# Altium integrated library Microchip Mixed Signal.IntLib: 1399 symbols (part 39 of 39)
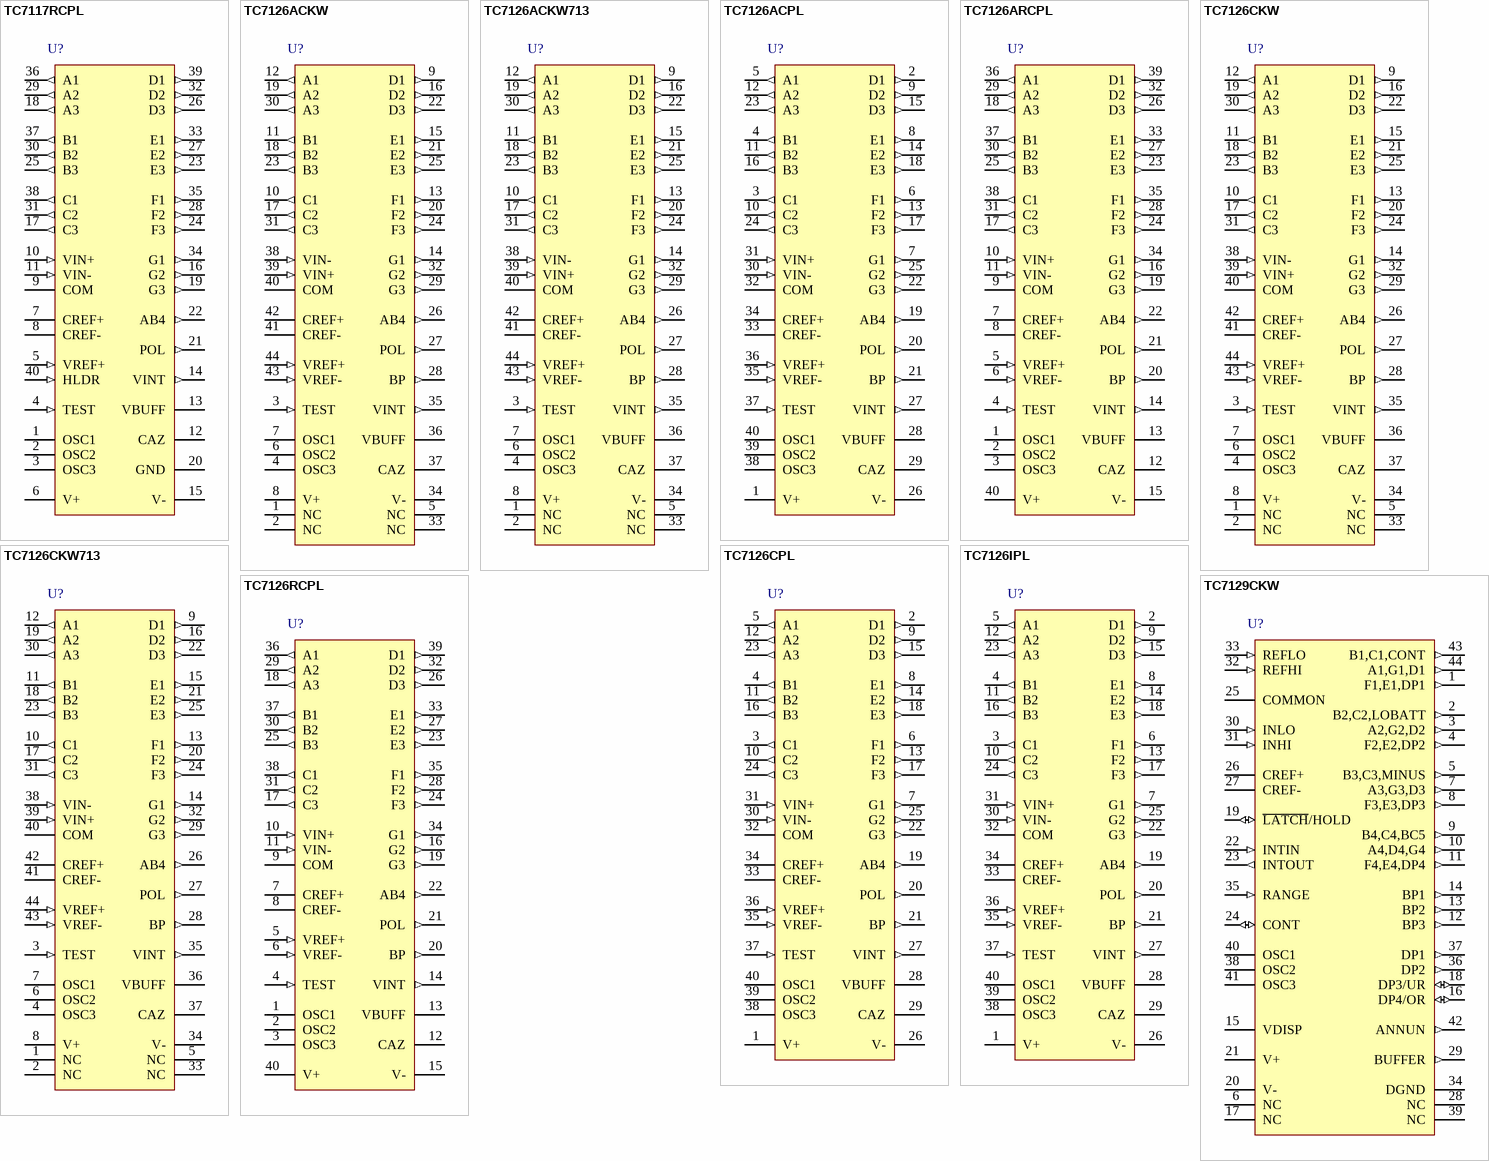
[diagram p82: symbols TC7117RCPL to TC7129CKW]

## TC7126RCPL
designator U?
3-1/2 Digit Analog-to-Digital Converters, 40-Pin PDIP 600mil, Commercial Temperature; Manufacturer: Microchip; PartNumber: TC7126RCPL; DatasheetVersion: Feb-2006; PackageVersion: revBB, Aug-2009; PackageReference: PDIP600-PL40; PackageDescription: 40-Lead Plastic Dual In-Line (PL) - 600mil Body [PDIP]; Supplier 1: Digi-Key; Supplier Part Number 1: TC7126RCPL-ND; Supplier 2: Mouser; Supplier Part Number 2: 579-TC7126RCPL; Mounting Technology: Through Hole; ComponentLink1Description: Manufacturer URL; ComponentLink1URL: http://www.microchip.com/; ComponentLink2Description: Datasheet; ComponentLink2URL: http://ww1.microchip.com/downloads/en/DeviceDoc/21458C.pdf; ComponentLink3Description: Package Specification; ComponentLink3URL: http://www.microchip.com/stellent/groups/techpub_sg/documents/packagingspec/en012702.pdf
footprint PDIP600-PL40 (DIP, 40-Leads, Row Spacing 15.24mm, Pitch 2.54mm, Body 51.8x13.5mm)
pins: 1 OSC1, 2 OSC2, 3 OSC3, 4 TEST (in), 5 VREF+ (in), 6 VREF- (in), 7 CREF+, 8 CREF-, 9 COM (power), 10 VIN+ (in), 11 VIN- (in), 12 CAZ, 13 VBUFF, 14 VINT (out), 15 V- (power), 16 G2 (out), 17 C3 (out), 18 A3 (out), 19 G3 (out), 20 BP (out), 21 POL (out), 22 AB4 (out), 23 E3 (out), 24 F3 (out), 25 B3 (out), 26 D3 (out), 27 E2 (out), 28 F2 (out), 29 A2 (out), 30 B2 (out), 31 C2 (out), 32 D2 (out), 33 E1 (out), 34 G1 (out), 35 F1 (out), 36 A1 (out), 37 B1 (out), 38 C1 (out), 39 D1 (out), 40 V+ (power)

## TC7129CKW
designator U?
4-1/2 Digit Analog-to-Digital Converters with On-Chip LCD Drivers, 44-Pin MQFP, Commercial Temperature; Manufacturer: Microchip; PartNumber: TC7129CKW; DatasheetVersion: Feb-2006; PackageVersion: revBB, Aug-2009; PackageReference: MQFP-KW44; PackageDescription: 44-Lead Plastic Metric Quad Flatpack (KW) - 10x10x2mm Body, 3.20mm [MQFP]; Supplier 1: Digi-Key; Supplier Part Number 1: TC7129CKW-ND; Supplier 2: Mouser; Supplier Part Number 2: 579-TC7129CKW; Mounting Technology: Surface Mount; Code_JEDEC: MS-022-AB; Code_IPC: QFP80P1320X1320-44; ComponentLink1Description: Manufacturer URL; ComponentLink1URL: http://www.microchip.com/; ComponentLink2Description: Datasheet; ComponentLink2URL: http://ww1.microchip.com/downloads/en/DeviceDoc/21459D.pdf; ComponentLink3Description: Package Specification; ComponentLink3URL: http://www.microchip.com/stellent/groups/techpub_sg/documents/packagingspec/en012702.pdf
footprint MQFP-KW44_N (QFP, 44-Leads, Body 10x10mm, Pitch 0.8mm, IPC Medium Density)
footprint MQFP-KW44_L (QFP, 44-Leads, Body 10x10mm, Pitch 0.8mm, IPC High Density)
footprint MQFP-KW44_M (QFP, 44-Leads, Body 10x10mm, Pitch 0.8mm, IPC Low Density)
pins: 1 F1,E1,DP1 (out), 2 B2,C2,LOBATT (out), 3 A2,G2,D2 (out), 4 F2,E2,DP2 (out), 5 B3,C3,MINUS (out), 6 NC, 7 A3,G3,D3 (out), 8 F3,E3,DP3 (out), 9 B4,C4,BC5 (out), 10 A4,D4,G4 (out), 11 F4,E4,DP4 (out), 12 BP3 (out), 13 BP2 (out), 14 BP1 (out), 15 VDISP (power), 16 DP4/OR (io), 17 NC, 18 DP3/UR (io), 19 ~{LATCH}/HOLD (io), 20 V- (power), 21 V+ (power), 22 INTIN (in), 23 INTOUT (out), 24 CONT (io), 25 COMMON (power), 26 CREF+, 27 CREF-, 28 NC, 29 BUFFER (out), 30 INLO (in), 31 INHI (in), 32 REFHI (in), 33 REFLO (in), 34 DGND (power), 35 RANGE (in), 36 DP2 (out), 37 DP1 (out), 38 OSC2, 39 NC, 40 OSC1, 41 OSC3, 42 ANNUN (out), 43 B1,C1,CONT (out), 44 A1,G1,D1 (out)

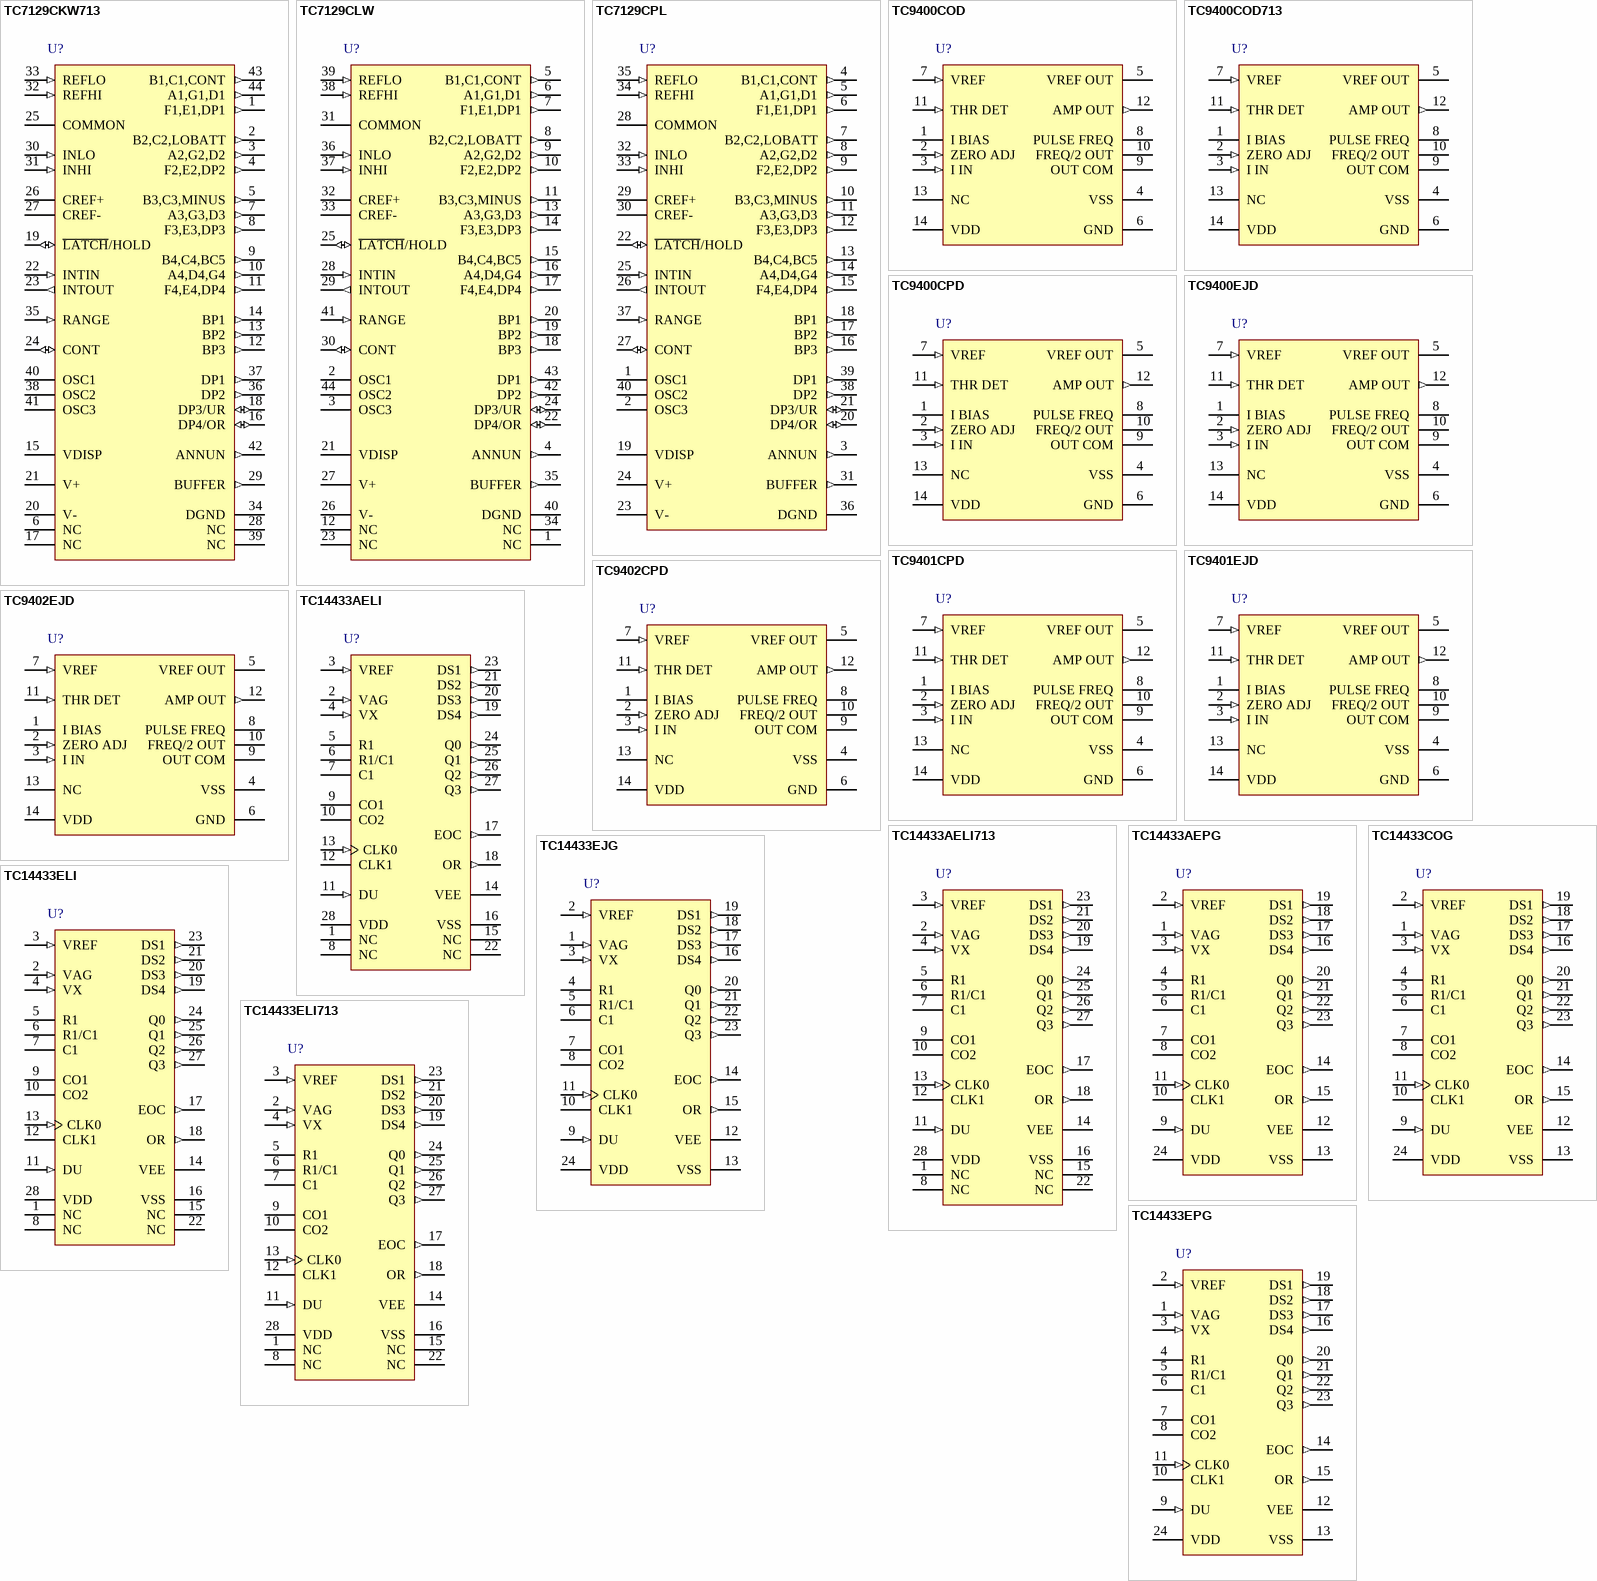
[diagram p44: symbols TC7129CKW713 to TC14433EPG]

## TC7129CKW713
designator U?
4-1/2 Digit Analog-to-Digital Converters with On-Chip LCD Drivers, 44-Pin MQFP, Commercial Temperature, Tape and Reel; Manufacturer: Microchip; PartNumber: TC7129CKW713; DatasheetVersion: Feb-2006; PackageVersion: revBB, Aug-2009; PackageReference: MQFP-KW44; PackageDescription: 44-Lead Plastic Metric Quad Flatpack (KW) - 10x10x2mm Body, 3.20mm [MQFP]; Supplier 1: Digi-Key; Supplier Part Number 1: TC7129CKW713-ND; Supplier 2: Mouser; Supplier Part Number 2: 579-TC7129CKW713; Mounting Technology: Surface Mount; Code_JEDEC: MS-022-AB; Code_IPC: QFP80P1320X1320-44; ComponentLink1Description: Manufacturer URL; ComponentLink1URL: http://www.microchip.com/; ComponentLink2Description: Datasheet; ComponentLink2URL: http://ww1.microchip.com/downloads/en/DeviceDoc/21459D.pdf; ComponentLink3Description: Package Specification; ComponentLink3URL: http://www.microchip.com/stellent/groups/techpub_sg/documents/packagingspec/en012702.pdf
footprint MQFP-KW44_N (QFP, 44-Leads, Body 10x10mm, Pitch 0.8mm, IPC Medium Density)
footprint MQFP-KW44_L (QFP, 44-Leads, Body 10x10mm, Pitch 0.8mm, IPC High Density)
footprint MQFP-KW44_M (QFP, 44-Leads, Body 10x10mm, Pitch 0.8mm, IPC Low Density)
pins: 1 F1,E1,DP1 (out), 2 B2,C2,LOBATT (out), 3 A2,G2,D2 (out), 4 F2,E2,DP2 (out), 5 B3,C3,MINUS (out), 6 NC, 7 A3,G3,D3 (out), 8 F3,E3,DP3 (out), 9 B4,C4,BC5 (out), 10 A4,D4,G4 (out), 11 F4,E4,DP4 (out), 12 BP3 (out), 13 BP2 (out), 14 BP1 (out), 15 VDISP (power), 16 DP4/OR (io), 17 NC, 18 DP3/UR (io), 19 ~{LATCH}/HOLD (io), 20 V- (power), 21 V+ (power), 22 INTIN (in), 23 INTOUT (out), 24 CONT (io), 25 COMMON (power), 26 CREF+, 27 CREF-, 28 NC, 29 BUFFER (out), 30 INLO (in), 31 INHI (in), 32 REFHI (in), 33 REFLO (in), 34 DGND (power), 35 RANGE (in), 36 DP2 (out), 37 DP1 (out), 38 OSC2, 39 NC, 40 OSC1, 41 OSC3, 42 ANNUN (out), 43 B1,C1,CONT (out), 44 A1,G1,D1 (out)

## TC7129CLW
designator U?
4-1/2 Digit Analog-to-Digital Converters with On-Chip LCD Drivers, 44-Pin PLCC, Commercial Temperature; Manufacturer: Microchip; PartNumber: TC7129CLW; DatasheetVersion: Feb-2006; PackageVersion: revBB, Aug-2009; PackageReference: PLCC-LW44; PackageDescription: 44-Lead Plastic Leaded Chip Carrier (LW) - Square [PLCC]; Supplier 1: Digi-Key; Supplier Part Number 1: TC7129CLW-ND; Supplier 2: Mouser; Supplier Part Number 2: 579-TC7129CLW; Mounting Technology: Surface Mount; Code_IPC: PLCC-44; ComponentLink1Description: Manufacturer URL; ComponentLink1URL: http://www.microchip.com/; ComponentLink2Description: Datasheet; ComponentLink2URL: http://ww1.microchip.com/downloads/en/DeviceDoc/21459D.pdf; ComponentLink3Description: Package Specification; ComponentLink3URL: http://www.microchip.com/stellent/groups/techpub_sg/documents/packagingspec/en012702.pdf
footprint PLCC-LW44_N (Leaded Chip Carrier, 44-Leads, Body 16.6x16.6mm, Pitch 1.27mm, IPC Medium Density)
footprint PLCC-LW44_L (Leaded Chip Carrier, 44-Leads, Body 16.6x16.6mm, Pitch 1.27mm, IPC High Density)
footprint PLCC-LW44_M (Leaded Chip Carrier, 44-Leads, Body 16.6x16.6mm, Pitch 1.27mm, IPC Low Density)
pins: 1 NC, 2 OSC1, 3 OSC3, 4 ANNUN (out), 5 B1,C1,CONT (out), 6 A1,G1,D1 (out), 7 F1,E1,DP1 (out), 8 B2,C2,LOBATT (out), 9 A2,G2,D2 (out), 10 F2,E2,DP2 (out), 11 B3,C3,MINUS (out), 12 NC, 13 A3,G3,D3 (out), 14 F3,E3,DP3 (out), 15 B4,C4,BC5 (out), 16 A4,D4,G4 (out), 17 F4,E4,DP4 (out), 18 BP3 (out), 19 BP2 (out), 20 BP1 (out), 21 VDISP (power), 22 DP4/OR (io), 23 NC, 24 DP3/UR (io), 25 ~{LATCH}/HOLD (io), 26 V- (power), 27 V+ (power), 28 INTIN (in), 29 INTOUT (out), 30 CONT (io), 31 COMMON (power), 32 CREF+, 33 CREF-, 34 NC, 35 BUFFER (out), 36 INLO (in), 37 INHI (in), 38 REFHI (in), 39 REFLO (in), 40 DGND (power), 41 RANGE (in), 42 DP2 (out), 43 DP1 (out), 44 OSC2

## TC7129CPL
designator U?
4-1/2 Digit Analog-to-Digital Converters with On-Chip LCD Drivers, 40-Pin PDIP, Commercial Temperature; Manufacturer: Microchip; PartNumber: TC7129CPL; DatasheetVersion: Feb-2006; PackageVersion: revBB, Aug-2009; PackageReference: PDIP600-PL40; PackageDescription: 40-Lead Plastic Dual In-Line (PL) - 600mil Body [PDIP]; Supplier 1: Digi-Key; Supplier Part Number 1: TC7129CPL-ND; Supplier 2: Farnell; Supplier Part Number 2: 1852304; Supplier 3: Newark; Supplier Part Number 3: 96K4045; Supplier 4: Mouser; Supplier Part Number 4: 579-TC7129CPL; Mounting Technology: Through Hole; ComponentLink1Description: Manufacturer URL; ComponentLink1URL: http://www.microchip.com/; ComponentLink2Description: Datasheet; ComponentLink2URL: http://ww1.microchip.com/downloads/en/DeviceDoc/21459D.pdf; ComponentLink3Description: Package Specification; ComponentLink3URL: http://www.microchip.com/stellent/groups/techpub_sg/documents/packagingspec/en012702.pdf
footprint PDIP600-PL40 (DIP, 40-Leads, Row Spacing 15.24mm, Pitch 2.54mm, Body 51.8x13.5mm)
pins: 1 OSC1, 2 OSC3, 3 ANNUN (out), 4 B1,C1,CONT (out), 5 A1,G1,D1 (out), 6 F1,E1,DP1 (out), 7 B2,C2,LOBATT (out), 8 A2,G2,D2 (out), 9 F2,E2,DP2 (out), 10 B3,C3,MINUS (out), 11 A3,G3,D3 (out), 12 F3,E3,DP3 (out), 13 B4,C4,BC5 (out), 14 A4,D4,G4 (out), 15 F4,E4,DP4 (out), 16 BP3 (out), 17 BP2 (out), 18 BP1 (out), 19 VDISP (power), 20 DP4/OR (io), 21 DP3/UR (io), 22 ~{LATCH}/HOLD (io), 23 V- (power), 24 V+ (power), 25 INTIN (in), 26 INTOUT (out), 27 CONT (io), 28 COMMON (power), 29 CREF+, 30 CREF-, 31 BUFFER (out), 32 INLO (in), 33 INHI (in), 34 REFHI (in), 35 REFLO (in), 36 DGND (power), 37 RANGE (in), 38 DP2 (out), 39 DP1 (out), 40 OSC2

## TC9400COD
designator U?
Voltage-to-Frequency / Frequency-to-Voltage Converters, 14-Pin SOIC 150mil, Commercial Temperature; Manufacturer: Microchip; PartNumber: TC9400COD; DatasheetVersion: revD, Sep-2007; PackageVersion: revBB, Aug-2009; PackageReference: SOIC-OD14; PackageDescription: 14-Lead Plastic Small Outline (OD) - Narrow, 3.90mm Body [SOIC]; Supplier 1: Digi-Key; Supplier Part Number 1: TC9400COD-ND; Supplier 2: Farnell; Supplier Part Number 2: 1627183; Supplier 3: Newark; Supplier Part Number 3: 09P7109; Supplier 4: Mouser; Supplier Part Number 4: 579-TC9400COD; Mounting Technology: Surface Mount; Code_JEDEC: MS-012-AB; Code_IPC: SOIC127P600-14; ComponentLink1Description: Manufacturer URL; ComponentLink1URL: http://www.microchip.com/; ComponentLink2Description: Datasheet; ComponentLink2URL: http://ww1.microchip.com/downloads/en/DeviceDoc/21483d.pdf; ComponentLink3Description: Package Specification; ComponentLink3URL: http://www.microchip.com/stellent/groups/techpub_sg/documents/packagingspec/en012702.pdf
footprint SOIC-OD14_N (SOIC, 14-Leads, Body 8.7x3.9mm, Pitch 1.27mm, IPC Medium Density)
footprint SOIC-OD14_L (SOIC, 14-Leads, Body 8.7x3.9mm, Pitch 1.27mm, IPC High Density)
footprint SOIC-OD14_M (SOIC, 14-Leads, Body 8.7x3.9mm, Pitch 1.27mm, IPC Low Density)
pins: 1 I BIAS, 2 ZERO ADJ (in), 3 I IN (in), 4 VSS (power), 5 VREF OUT, 6 GND (power), 7 VREF (in), 8 PULSE FREQ (oc), 9 OUT COM (power), 10 FREQ/2 OUT (oc), 11 THR DET (in), 12 AMP OUT (out), 13 NC, 14 VDD (power)

## TC9400COD713
designator U?
Voltage-to-Frequency / Frequency-to-Voltage Converters, 14-Pin SOIC 150mil, Commercial Temperature, Tape and Reel; Manufacturer: Microchip; PartNumber: TC9400COD713; DatasheetVersion: revD, Sep-2007; PackageVersion: revBB, Aug-2009; PackageReference: SOIC-OD14; PackageDescription: 14-Lead Plastic Small Outline (OD) - Narrow, 3.90mm Body [SOIC]; Supplier 1: Digi-Key; Supplier Part Number 1: TC9400COD713-ND; Supplier 2: Mouser; Supplier Part Number 2: 579-TC9400COD713; Mounting Technology: Surface Mount; Code_JEDEC: MS-012-AB; Code_IPC: SOIC127P600-14; ComponentLink1Description: Manufacturer URL; ComponentLink1URL: http://www.microchip.com/; ComponentLink2Description: Datasheet; ComponentLink2URL: http://ww1.microchip.com/downloads/en/DeviceDoc/21483d.pdf; ComponentLink3Description: Package Specification; ComponentLink3URL: http://www.microchip.com/stellent/groups/techpub_sg/documents/packagingspec/en012702.pdf
footprint SOIC-OD14_N (SOIC, 14-Leads, Body 8.7x3.9mm, Pitch 1.27mm, IPC Medium Density)
footprint SOIC-OD14_L (SOIC, 14-Leads, Body 8.7x3.9mm, Pitch 1.27mm, IPC High Density)
footprint SOIC-OD14_M (SOIC, 14-Leads, Body 8.7x3.9mm, Pitch 1.27mm, IPC Low Density)
pins: 1 I BIAS, 2 ZERO ADJ (in), 3 I IN (in), 4 VSS (power), 5 VREF OUT, 6 GND (power), 7 VREF (in), 8 PULSE FREQ (oc), 9 OUT COM (power), 10 FREQ/2 OUT (oc), 11 THR DET (in), 12 AMP OUT (out), 13 NC, 14 VDD (power)

## TC9400CPD
designator U?
Voltage-to-Frequency / Frequency-to-Voltage Converters, 14-Pin PDIP, Commercial Temperature; Manufacturer: Microchip; PartNumber: TC9400CPD; DatasheetVersion: revD, Sep-2007; PackageVersion: revBB, Aug-2009; PackageReference: PDIP300-PD14; PackageDescription: 14-Lead Plastic Dual In-Line (PD) - 300 mil Body [PDIP]; Supplier 1: Digi-Key; Supplier Part Number 1: TC9400CPD-ND; Supplier 2: Farnell; Supplier Part Number 2: 9762736; Supplier 3: Newark; Supplier Part Number 3: 96K4052; Supplier 4: Mouser; Supplier Part Number 4: 579-TC9400CPD; Mounting Technology: Through Hole; Code_JEDEC: MS-001-AA; ComponentLink1Description: Manufacturer URL; ComponentLink1URL: http://www.microchip.com/; ComponentLink2Description: Datasheet; ComponentLink2URL: http://ww1.microchip.com/downloads/en/DeviceDoc/21483d.pdf; ComponentLink3Description: Package Specification; ComponentLink3URL: http://www.microchip.com/stellent/groups/techpub_sg/documents/packagingspec/en012702.pdf
footprint PDIP300-PD14 (DIP, 14-Leads, Row Spacing 7.62mm, Pitch 2.54mm, Body 19.2x6.6mm)
pins: 1 I BIAS, 2 ZERO ADJ (in), 3 I IN (in), 4 VSS (power), 5 VREF OUT, 6 GND (power), 7 VREF (in), 8 PULSE FREQ (oc), 9 OUT COM (power), 10 FREQ/2 OUT (oc), 11 THR DET (in), 12 AMP OUT (out), 13 NC, 14 VDD (power)

## TC9400EJD
designator U?
Voltage-to-Frequency / Frequency-to-Voltage Converters, 14-Pin CERDIP 300mil, Extended Temperature; Manufacturer: Microchip; PartNumber: TC9400EJD; DatasheetVersion: revA, Sep-2006; PackageVersion: revBB, Aug-2009; PackageReference: CERDIP300-JD14; PackageDescription: 14-Lead Ceramic Dual In-Line (JD) - 300mil Body [CERDIP]; Supplier 1: Digi-Key; Supplier Part Number 1: TC9400EJD-ND; Supplier 2: Mouser; Supplier Part Number 2: 579-TC9400EJD; Mounting Technology: Through Hole; ComponentLink1Description: Manufacturer URL; ComponentLink1URL: http://www.microchip.com/; ComponentLink2Description: Datasheet; ComponentLink2URL: http://ww1.microchip.com/downloads/en/DeviceDoc/22011A.pdf; ComponentLink3Description: Package Specification; ComponentLink3URL: http://www.microchip.com/stellent/groups/techpub_sg/documents/packagingspec/en012702.pdf
footprint CERDIP300-JD14 (DIP, 14-Leads, Row Spacing 7.62mm, Pitch 2.54mm, Body 19.3x6.7mm)
pins: 1 I BIAS, 2 ZERO ADJ (in), 3 I IN (in), 4 VSS (power), 5 VREF OUT, 6 GND (power), 7 VREF (in), 8 PULSE FREQ (oc), 9 OUT COM (power), 10 FREQ/2 OUT (oc), 11 THR DET (in), 12 AMP OUT (out), 13 NC, 14 VDD (power)

## TC9401CPD
designator U?
Voltage-to-Frequency / Frequency-to-Voltage Converters, 14-Pin PDIP, Commercial Temperature; Manufacturer: Microchip; PartNumber: TC9401CPD; DatasheetVersion: revD, Sep-2007; PackageVersion: revBB, Aug-2009; PackageReference: PDIP300-PD14; PackageDescription: 14-Lead Plastic Dual In-Line (PD) - 300 mil Body [PDIP]; Supplier 1: Digi-Key; Supplier Part Number 1: TC9401CPD-ND; Supplier 2: Farnell; Supplier Part Number 2: 1605584; Supplier 3: Newark; Supplier Part Number 3: 11N8305; Supplier 4: Mouser; Supplier Part Number 4: 579-TC9401CPD; Mounting Technology: Through Hole; Code_JEDEC: MS-001-AA; ComponentLink1Description: Manufacturer URL; ComponentLink1URL: http://www.microchip.com/; ComponentLink2Description: Datasheet; ComponentLink2URL: http://ww1.microchip.com/downloads/en/DeviceDoc/21483d.pdf; ComponentLink3Description: Package Specification; ComponentLink3URL: http://www.microchip.com/stellent/groups/techpub_sg/documents/packagingspec/en012702.pdf
footprint PDIP300-PD14 (DIP, 14-Leads, Row Spacing 7.62mm, Pitch 2.54mm, Body 19.2x6.6mm)
pins: 1 I BIAS, 2 ZERO ADJ (in), 3 I IN (in), 4 VSS (power), 5 VREF OUT, 6 GND (power), 7 VREF (in), 8 PULSE FREQ (oc), 9 OUT COM (power), 10 FREQ/2 OUT (oc), 11 THR DET (in), 12 AMP OUT (out), 13 NC, 14 VDD (power)

## TC9401EJD
designator U?
Voltage-to-Frequency / Frequency-to-Voltage Converters, 14-Pin CERDIP 300mil, Extended Temperature; Manufacturer: Microchip; PartNumber: TC9401EJD; DatasheetVersion: revA, Sep-2006; PackageVersion: revBB, Aug-2009; PackageReference: CERDIP300-JD14; PackageDescription: 14-Lead Ceramic Dual In-Line (JD) - 300mil Body [CERDIP]; Supplier 1: Digi-Key; Supplier Part Number 1: TC9401EJD-ND; Supplier 2: Mouser; Supplier Part Number 2: 579-TC9401EJD; Mounting Technology: Through Hole; ComponentLink1Description: Manufacturer URL; ComponentLink1URL: http://www.microchip.com/; ComponentLink2Description: Datasheet; ComponentLink2URL: http://ww1.microchip.com/downloads/en/DeviceDoc/22011A.pdf; ComponentLink3Description: Package Specification; ComponentLink3URL: http://www.microchip.com/stellent/groups/techpub_sg/documents/packagingspec/en012702.pdf
footprint CERDIP300-JD14 (DIP, 14-Leads, Row Spacing 7.62mm, Pitch 2.54mm, Body 19.3x6.7mm)
pins: 1 I BIAS, 2 ZERO ADJ (in), 3 I IN (in), 4 VSS (power), 5 VREF OUT, 6 GND (power), 7 VREF (in), 8 PULSE FREQ (oc), 9 OUT COM (power), 10 FREQ/2 OUT (oc), 11 THR DET (in), 12 AMP OUT (out), 13 NC, 14 VDD (power)

## TC9402CPD
designator U?
Voltage-to-Frequency / Frequency-to-Voltage Converters, 14-Pin PDIP, Commercial Temperature; Manufacturer: Microchip; PartNumber: TC9402CPD; DatasheetVersion: revD, Sep-2007; PackageVersion: revBB, Aug-2009; PackageReference: PDIP300-PD14; PackageDescription: 14-Lead Plastic Dual In-Line (PD) - 300 mil Body [PDIP]; Supplier 1: Digi-Key; Supplier Part Number 1: TC9402CPD-ND; Supplier 2: Farnell; Supplier Part Number 2: 1213077; Supplier 3: Newark; Supplier Part Number 3: 96K4053; Supplier 4: Mouser; Supplier Part Number 4: 579-TC9402CPD; Mounting Technology: Through Hole; Code_JEDEC: MS-001-AA; ComponentLink1Description: Manufacturer URL; ComponentLink1URL: http://www.microchip.com/; ComponentLink2Description: Datasheet; ComponentLink2URL: http://ww1.microchip.com/downloads/en/DeviceDoc/21483d.pdf; ComponentLink3Description: Package Specification; ComponentLink3URL: http://www.microchip.com/stellent/groups/techpub_sg/documents/packagingspec/en012702.pdf
footprint PDIP300-PD14 (DIP, 14-Leads, Row Spacing 7.62mm, Pitch 2.54mm, Body 19.2x6.6mm)
pins: 1 I BIAS, 2 ZERO ADJ (in), 3 I IN (in), 4 VSS (power), 5 VREF OUT, 6 GND (power), 7 VREF (in), 8 PULSE FREQ (oc), 9 OUT COM (power), 10 FREQ/2 OUT (oc), 11 THR DET (in), 12 AMP OUT (out), 13 NC, 14 VDD (power)

## TC9402EJD
designator U?
Voltage-to-Frequency / Frequency-to-Voltage Converters, 14-Pin CERDIP 300mil, Extended Temperature; Manufacturer: Microchip; PartNumber: TC9402EJD; DatasheetVersion: revA, Sep-2006; PackageVersion: revBB, Aug-2009; PackageReference: CERDIP300-JD14; PackageDescription: 14-Lead Ceramic Dual In-Line (JD) - 300mil Body [CERDIP]; Supplier 1: Digi-Key; Supplier Part Number 1: TC9402EJD-ND; Supplier 2: Mouser; Supplier Part Number 2: 579-TC9402EJD; Mounting Technology: Through Hole; ComponentLink1Description: Manufacturer URL; ComponentLink1URL: http://www.microchip.com/; ComponentLink2Description: Datasheet; ComponentLink2URL: http://ww1.microchip.com/downloads/en/DeviceDoc/22011A.pdf; ComponentLink3Description: Package Specification; ComponentLink3URL: http://www.microchip.com/stellent/groups/techpub_sg/documents/packagingspec/en012702.pdf
footprint CERDIP300-JD14 (DIP, 14-Leads, Row Spacing 7.62mm, Pitch 2.54mm, Body 19.3x6.7mm)
pins: 1 I BIAS, 2 ZERO ADJ (in), 3 I IN (in), 4 VSS (power), 5 VREF OUT, 6 GND (power), 7 VREF (in), 8 PULSE FREQ (oc), 9 OUT COM (power), 10 FREQ/2 OUT (oc), 11 THR DET (in), 12 AMP OUT (out), 13 NC, 14 VDD (power)

## TC14433AELI
designator U?
3-1/2 Digit, Analog-to-Digital Converter, 28-Pin PLCC, Extended Temperature; Manufacturer: Microchip; PartNumber: TC14433AELI; DatasheetVersion: revD, Jul-2008; PackageVersion: revBB, Aug-2009; PackageReference: PLCC-LI28; PackageDescription: 28-Lead Plastic Leaded Chip Carrier (LI) - Square [PLCC]; Supplier 1: Digi-Key; Supplier Part Number 1: TC14433AELI-ND; Supplier 2: Mouser; Supplier Part Number 2: 579-TC14433AELI; Mounting Technology: Surface Mount; Code_IPC: PLCC-28; ComponentLink1Description: Manufacturer URL; ComponentLink1URL: http://www.microchip.com/; ComponentLink2Description: Datasheet; ComponentLink2URL: http://ww1.microchip.com/downloads/en/DeviceDoc/21394d.pdf; ComponentLink3Description: Package Specification; ComponentLink3URL: http://www.microchip.com/stellent/groups/techpub_sg/documents/packagingspec/en012702.pdf
footprint PLCC-LI28_N (Leaded Chip Carrier, 28-Leads, Body 11.5x11.5mm, Pitch 1.27mm, IPC Medium Density)
footprint PLCC-LI28_L (Leaded Chip Carrier, 28-Leads, Body 11.5x11.5mm, Pitch 1.27mm, IPC High Density)
footprint PLCC-LI28_M (Leaded Chip Carrier, 28-Leads, Body 11.5x11.5mm, Pitch 1.27mm, IPC Low Density)
pins: 1 NC, 2 VAG (in), 3 VREF (in), 4 VX (in), 5 R1, 6 R1/C1, 7 C1, 8 NC, 9 CO1, 10 CO2, 11 DU (in), 12 CLK1, 13 CLK0 (in), 14 VEE (power), 15 NC, 16 VSS (power), 17 EOC (out), 18 OR (out), 19 DS4 (out), 20 DS3 (out), 21 DS2 (out), 22 NC, 23 DS1 (out), 24 Q0 (out), 25 Q1 (out), 26 Q2 (out), 27 Q3 (out), 28 VDD (power)

## TC14433AELI713
designator U?
3-1/2 Digit, Analog-to-Digital Converter, 28-Pin PLCC, Extended Temperature, Tape and Reel; Manufacturer: Microchip; PartNumber: TC14433AELI713; DatasheetVersion: revD, Jul-2008; PackageVersion: revBB, Aug-2009; PackageReference: PLCC-LI28; PackageDescription: 28-Lead Plastic Leaded Chip Carrier (LI) - Square [PLCC]; Supplier 1: Digi-Key; Supplier Part Number 1: TC14433AELI713-ND; Supplier 2: Mouser; Supplier Part Number 2: 579-TC14433AELI713; Mounting Technology: Surface Mount; Code_IPC: PLCC-28; ComponentLink1Description: Manufacturer URL; ComponentLink1URL: http://www.microchip.com/; ComponentLink2Description: Datasheet; ComponentLink2URL: http://ww1.microchip.com/downloads/en/DeviceDoc/21394d.pdf; ComponentLink3Description: Package Specification; ComponentLink3URL: http://www.microchip.com/stellent/groups/techpub_sg/documents/packagingspec/en012702.pdf
footprint PLCC-LI28_N (Leaded Chip Carrier, 28-Leads, Body 11.5x11.5mm, Pitch 1.27mm, IPC Medium Density)
footprint PLCC-LI28_L (Leaded Chip Carrier, 28-Leads, Body 11.5x11.5mm, Pitch 1.27mm, IPC High Density)
footprint PLCC-LI28_M (Leaded Chip Carrier, 28-Leads, Body 11.5x11.5mm, Pitch 1.27mm, IPC Low Density)
pins: 1 NC, 2 VAG (in), 3 VREF (in), 4 VX (in), 5 R1, 6 R1/C1, 7 C1, 8 NC, 9 CO1, 10 CO2, 11 DU (in), 12 CLK1, 13 CLK0 (in), 14 VEE (power), 15 NC, 16 VSS (power), 17 EOC (out), 18 OR (out), 19 DS4 (out), 20 DS3 (out), 21 DS2 (out), 22 NC, 23 DS1 (out), 24 Q0 (out), 25 Q1 (out), 26 Q2 (out), 27 Q3 (out), 28 VDD (power)

## TC14433AEPG
designator U?
3-1/2 Digit, Analog-to-Digital Converter, 24-Pin PDIP 600mil, Extended Temperature; Manufacturer: Microchip; PartNumber: TC14433AEPG; DatasheetVersion: revD, Jul-2008; PackageVersion: revBB, Aug-2009; PackageReference: PDIP600-PG24; PackageDescription: 24-Lead Plastic Dual In-Line (PG) - 600 mil Body [PDIP]; Supplier 1: Digi-Key; Supplier Part Number 1: TC14433AEPG-ND; Supplier 2: Newark; Supplier Part Number 2: 85C0292; Supplier 3: Mouser; Supplier Part Number 3: 579-TC14433AEPG; Mounting Technology: Through Hole; Code_JEDEC: MS-011-AA; ComponentLink1Description: Manufacturer URL; ComponentLink1URL: http://www.microchip.com/; ComponentLink2Description: Datasheet; ComponentLink2URL: http://ww1.microchip.com/downloads/en/DeviceDoc/21394d.pdf; ComponentLink3Description: Package Specification; ComponentLink3URL: http://www.microchip.com/stellent/groups/techpub_sg/documents/packagingspec/en012702.pdf
footprint PDIP600-PG24 (DIP, 24-Leads, Row Spacing 15.24mm, Pitch 2.54mm, Body 31x13.5mm)
pins: 1 VAG (in), 2 VREF (in), 3 VX (in), 4 R1, 5 R1/C1, 6 C1, 7 CO1, 8 CO2, 9 DU (in), 10 CLK1, 11 CLK0 (in), 12 VEE (power), 13 VSS (power), 14 EOC (out), 15 OR (out), 16 DS4 (out), 17 DS3 (out), 18 DS2 (out), 19 DS1 (out), 20 Q0 (out), 21 Q1 (out), 22 Q2 (out), 23 Q3 (out), 24 VDD (power)

## TC14433COG
designator U?
3-1/2 Digit, Analog-to-Digital Converter, 24-Pin SOIC 300mil, Commercial Temperature; Manufacturer: Microchip; PartNumber: TC14433COG; DatasheetVersion: revD, Jul-2008; PackageVersion: revBB, Aug-2009; PackageReference: SOIC-OG24; PackageDescription: 24-Lead Plastic Small Outline (OG) - Wide 7.50mm Body [SOIC]; Supplier 1: Digi-Key; Supplier Part Number 1: TC14433COG-ND; Supplier 2: Mouser; Supplier Part Number 2: 579-TC14433COG; Mounting Technology: Surface Mount; Code_JEDEC: MS-013-AD; ComponentLink1Description: Manufacturer URL; ComponentLink1URL: http://www.microchip.com/; ComponentLink2Description: Datasheet; ComponentLink2URL: http://ww1.microchip.com/downloads/en/DeviceDoc/21394d.pdf; ComponentLink3Description: Package Specification; ComponentLink3URL: http://www.microchip.com/stellent/groups/techpub_sg/documents/packagingspec/en012702.pdf
footprint SOIC-OG24_N (SOIC, 24-Leads, Body 15.4x7.5mm, Pitch 1.27mm, IPC Medium Density)
footprint SOIC-OG24_L (SOIC, 24-Leads, Body 15.4x7.5mm, Pitch 1.27mm, IPC High Density)
footprint SOIC-OG24_M (SOIC, 24-Leads, Body 15.4x7.5mm, Pitch 1.27mm, IPC Low Density)
pins: 1 VAG (in), 2 VREF (in), 3 VX (in), 4 R1, 5 R1/C1, 6 C1, 7 CO1, 8 CO2, 9 DU (in), 10 CLK1, 11 CLK0 (in), 12 VEE (power), 13 VSS (power), 14 EOC (out), 15 OR (out), 16 DS4 (out), 17 DS3 (out), 18 DS2 (out), 19 DS1 (out), 20 Q0 (out), 21 Q1 (out), 22 Q2 (out), 23 Q3 (out), 24 VDD (power)

## TC14433EJG
designator U?
3-1/2 Digit, Analog-to-Digital Converter, 24-Pin CERDIP, ExtendedTemperature; Manufacturer: Microchip; PartNumber: TC14433EJG; DatasheetVersion: revD, Jul-2008; PackageVersion: revBB, Aug-2009; PackageReference: CERDIP600-JG24; PackageDescription: 24-Lead Ceramic Dual In-Line (JG) - 600mil Body [CERDIP]; Supplier 1: Digi-Key; Supplier Part Number 1: TC14433EJG-ND; Supplier 2: Mouser; Supplier Part Number 2: 579-TC14433EJG; Mounting Technology: Through Hole; ComponentLink1Description: Manufacturer URL; ComponentLink1URL: http://www.microchip.com/; ComponentLink2Description: Datasheet; ComponentLink2URL: http://ww1.microchip.com/downloads/en/DeviceDoc/21394d.pdf; ComponentLink3Description: Package Specification; ComponentLink3URL: http://www.microchip.com/stellent/groups/techpub_sg/documents/packagingspec/en012702.pdf
footprint CERDIP600-JG24 (DIP, 24-Leads, Row Spacing 15.24mm, Pitch 2.54mm, Body 31.9x13.3mm)
pins: 1 VAG (in), 2 VREF (in), 3 VX (in), 4 R1, 5 R1/C1, 6 C1, 7 CO1, 8 CO2, 9 DU (in), 10 CLK1, 11 CLK0 (in), 12 VEE (power), 13 VSS (power), 14 EOC (out), 15 OR (out), 16 DS4 (out), 17 DS3 (out), 18 DS2 (out), 19 DS1 (out), 20 Q0 (out), 21 Q1 (out), 22 Q2 (out), 23 Q3 (out), 24 VDD (power)

## TC14433ELI
designator U?
3-1/2 Digit, Analog-to-Digital Converter, 28-Pin PLCC, Extended Temperature; Manufacturer: Microchip; PartNumber: TC14433ELI; DatasheetVersion: revD, Jul-2008; PackageVersion: revBB, Aug-2009; PackageReference: PLCC-LI28; PackageDescription: 28-Lead Plastic Leaded Chip Carrier (LI) - Square [PLCC]; Supplier 1: Digi-Key; Supplier Part Number 1: TC14433ELI-ND; Supplier 2: Mouser; Supplier Part Number 2: 579-TC14433ELI; Mounting Technology: Surface Mount; Code_IPC: PLCC-28; ComponentLink1Description: Manufacturer URL; ComponentLink1URL: http://www.microchip.com/; ComponentLink2Description: Datasheet; ComponentLink2URL: http://ww1.microchip.com/downloads/en/DeviceDoc/21394d.pdf; ComponentLink3Description: Package Specification; ComponentLink3URL: http://www.microchip.com/stellent/groups/techpub_sg/documents/packagingspec/en012702.pdf
footprint PLCC-LI28_N (Leaded Chip Carrier, 28-Leads, Body 11.5x11.5mm, Pitch 1.27mm, IPC Medium Density)
footprint PLCC-LI28_L (Leaded Chip Carrier, 28-Leads, Body 11.5x11.5mm, Pitch 1.27mm, IPC High Density)
footprint PLCC-LI28_M (Leaded Chip Carrier, 28-Leads, Body 11.5x11.5mm, Pitch 1.27mm, IPC Low Density)
pins: 1 NC, 2 VAG (in), 3 VREF (in), 4 VX (in), 5 R1, 6 R1/C1, 7 C1, 8 NC, 9 CO1, 10 CO2, 11 DU (in), 12 CLK1, 13 CLK0 (in), 14 VEE (power), 15 NC, 16 VSS (power), 17 EOC (out), 18 OR (out), 19 DS4 (out), 20 DS3 (out), 21 DS2 (out), 22 NC, 23 DS1 (out), 24 Q0 (out), 25 Q1 (out), 26 Q2 (out), 27 Q3 (out), 28 VDD (power)

## TC14433ELI713
designator U?
3-1/2 Digit, Analog-to-Digital Converter, 28-Pin PLCC, Extended Temperature, Tape and Reel; Manufacturer: Microchip; PartNumber: TC14433ELI713; DatasheetVersion: revD, Jul-2008; PackageVersion: revBB, Aug-2009; PackageReference: PLCC-LI28; PackageDescription: 28-Lead Plastic Leaded Chip Carrier (LI) - Square [PLCC]; Supplier 1: Digi-Key; Supplier Part Number 1: TC14433ELI713-ND; Supplier 2: Newark; Supplier Part Number 2: 92C5948; Supplier 3: Mouser; Supplier Part Number 3: 579-TC14433ELI713; Mounting Technology: Surface Mount; Code_IPC: PLCC-28; ComponentLink1Description: Manufacturer URL; ComponentLink1URL: http://www.microchip.com/; ComponentLink2Description: Datasheet; ComponentLink2URL: http://ww1.microchip.com/downloads/en/DeviceDoc/21394d.pdf; ComponentLink3Description: Package Specification; ComponentLink3URL: http://www.microchip.com/stellent/groups/techpub_sg/documents/packagingspec/en012702.pdf
footprint PLCC-LI28_N (Leaded Chip Carrier, 28-Leads, Body 11.5x11.5mm, Pitch 1.27mm, IPC Medium Density)
footprint PLCC-LI28_L (Leaded Chip Carrier, 28-Leads, Body 11.5x11.5mm, Pitch 1.27mm, IPC High Density)
footprint PLCC-LI28_M (Leaded Chip Carrier, 28-Leads, Body 11.5x11.5mm, Pitch 1.27mm, IPC Low Density)
pins: 1 NC, 2 VAG (in), 3 VREF (in), 4 VX (in), 5 R1, 6 R1/C1, 7 C1, 8 NC, 9 CO1, 10 CO2, 11 DU (in), 12 CLK1, 13 CLK0 (in), 14 VEE (power), 15 NC, 16 VSS (power), 17 EOC (out), 18 OR (out), 19 DS4 (out), 20 DS3 (out), 21 DS2 (out), 22 NC, 23 DS1 (out), 24 Q0 (out), 25 Q1 (out), 26 Q2 (out), 27 Q3 (out), 28 VDD (power)

## TC14433EPG
designator U?
3-1/2 Digit, Analog-to-Digital Converter, 24-Pin PDIP 600mil, Extended Temperature; Manufacturer: Microchip; PartNumber: TC14433EPG; DatasheetVersion: revD, Jul-2008; PackageVersion: revBB, Aug-2009; PackageReference: PDIP600-PG24; PackageDescription: 24-Lead Plastic Dual In-Line (PG) - 600 mil Body [PDIP]; Supplier 1: Digi-Key; Supplier Part Number 1: TC14433EPG-ND; Supplier 2: Newark; Supplier Part Number 2: 85C0441; Supplier 3: Mouser; Supplier Part Number 3: 579-TC14433EPG; Mounting Technology: Through Hole; Code_JEDEC: MS-011-AA; ComponentLink1Description: Manufacturer URL; ComponentLink1URL: http://www.microchip.com/; ComponentLink2Description: Datasheet; ComponentLink2URL: http://ww1.microchip.com/downloads/en/DeviceDoc/21394d.pdf; ComponentLink3Description: Package Specification; ComponentLink3URL: http://www.microchip.com/stellent/groups/techpub_sg/documents/packagingspec/en012702.pdf
footprint PDIP600-PG24 (DIP, 24-Leads, Row Spacing 15.24mm, Pitch 2.54mm, Body 31x13.5mm)
pins: 1 VAG (in), 2 VREF (in), 3 VX (in), 4 R1, 5 R1/C1, 6 C1, 7 CO1, 8 CO2, 9 DU (in), 10 CLK1, 11 CLK0 (in), 12 VEE (power), 13 VSS (power), 14 EOC (out), 15 OR (out), 16 DS4 (out), 17 DS3 (out), 18 DS2 (out), 19 DS1 (out), 20 Q0 (out), 21 Q1 (out), 22 Q2 (out), 23 Q3 (out), 24 VDD (power)